# EAGLE library part MCP6V02 (library Semiconductors > Integrated Circuits - ICs > Amplifier ICs > Operational Amplifiers - Op Amps)
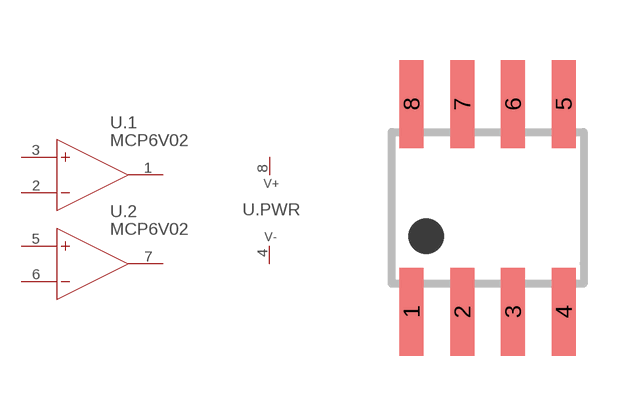
[diagram p0: symbol with the pads of SOIC8; footprint SOIC8]

Designator prefix U; gates .1=OP_AMP .2=OP_AMP .PWR=OP_AMP_PWR

## MCP6V02SOIC8  [SOIC8]
1  .1:OUT  out
2  .1:-IN  in
3  .1:+IN  in
4  .PWR:V-  pwr
5  .2:+IN  in
6  .2:-IN  in
7  .2:OUT  out
8  .PWR:V+  pwr

## Footprint SOIC8 (pad centres in mm)
Small Outline IC
smd 0.6 x 2.2: 1 -1.905,-2.6; 2 -0.635,-2.6; 3 0.635,-2.6; 4 1.905,-2.6; 5 1.905,2.6; 6 0.635,2.6; 7 -0.635,2.6; 8 -1.905,2.6